# EAGLE library part IMU-LSM6DSOXTR-497-18367-1-ND (library IMU-LSM6DSOXTR)
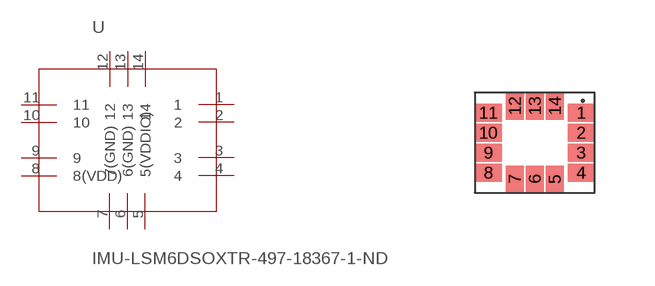
[diagram p0: symbol with the pads of IMU-LSM6DSOXTR-497-18367-1-ND; footprint IMU-LSM6DSOXTR-497-18367-1-ND]

Designator prefix U

## IMU-LSM6DSOXTR-497-18367-1-ND497-18367-1-ND (CREATOR: KaustubhKanagalekar; DIST: Digikey; DISTPN: 497-18367-1-ND)  [IMU-LSM6DSOXTR-497-18367-1-ND]
1  1
2  2
3  3
4  4
5  5(VDDIO)
6  6(GND)
7  7(GND)
8  8(VDD)
9  9
10  10
11  11
12  12
13  13
14  14

## Footprint IMU-LSM6DSOXTR-497-18367-1-ND (pad centres in mm)
smd 0.675 x 0.45: 1 1.163,0.75; 2 1.163,0.25; 3 1.163,-0.25; 4 1.163,-0.75; 8 -1.163,-0.75; 9 -1.163,-0.25; 10 -1.163,0.25; 11 -1.163,0.75
smd 0.45 x 0.675: 5 0.5,-0.912; 6 0,-0.912; 7 -0.5,-0.912; 12 -0.5,0.912; 13 0,0.912; 14 0.5,0.912